# Altium footprint library Supernova Capacitors.PcbLib: 22 footprints (part 2 of 2)
Each footprint in its own frame and in the unit in brackets; x right, y up, seen from the top. Pads: shape width x height; smd on the part's side, far side on the other; paste and mask are expansions set on the pad; w line width, h text height; cw(c..) or ccw(c..) is an arc to the next point about the centre after c.
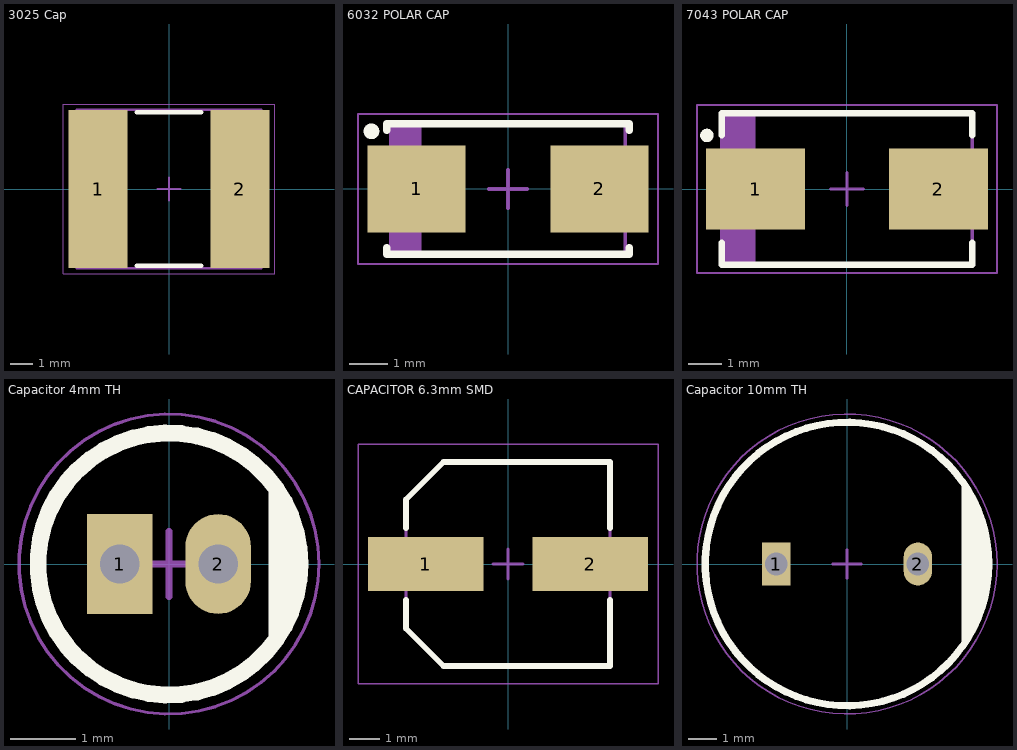
[diagram p1: the footprints below, top view; thin cyan lines are the x and y axes]

## 3025 Cap [mm]
height 8.5
pads (2):
  rect 2.65x7.1 smd paste-2: 1(-3.175,0) 2(3.175,0)
Top Overlay:
  lines w0.2: -1.45,-3.45 1.45,-3.45 ; -1.45,3.45 1.45,3.45
Top Paste:
  region: -2.2,-1.2 -4.2,-1.2 -4.2,-3.2 -2.2,-3.2
  rectangle: -4.2,1.2 -2.2,3.2
  rectangle: -4.2,-1 -2.2,1
  region: 4.2,-1.2 2.2,-1.2 2.2,-3.2 4.2,-3.2
  rectangle: 2.2,1.2 4.2,3.2
  rectangle: 2.2,-1 4.2,1
Top 3D Body:
  lines w0.1: -4.15,-3.55 4.15,-3.55 4.15,3.55 -4.15,3.55 -4.15,-3.55
Top Courtyard (Mech15):
  lines w0.05: -4.75,-3.8 4.75,-3.8 4.75,3.8 -4.75,3.8 -4.75,-3.8
  lines w0.1: -0.5,0 0.5,0 ; 0,-0.5 0,0.5
3D body: height 8.5, standoff 0, extent 2.65,-3.55 4.15,3.55
3D body: height 8.5, standoff 0, extent -4.15,-3.55 -2.65,3.55
3D body: height 8.5, standoff 1, extent -2.65,-3.55 2.65,3.55

## 6032 POLAR CAP [mm] "Molded Capacitor, 2-Leads, Body 6.00x3.20mm, IPC Medium Density"
height 1.5
pads (2):
  rect 2.55x2.25 smd paste-0.2: 1(-2.375,0) 2(2.375,0)
Top Overlay:
  circle w0.203: c-3.55,1.5 r0.102
  lines w0.2: -3.15,-1.525 -3.15,-1.7 3.15,-1.7 3.15,-1.525 ; -3.15,1.525 -3.15,1.7 3.15,1.7 3.15,1.525
Top 3D Body:
  rectangle: -3.05,-1.7 -2.253,1.7
  lines w0.1: -3.05,-1.7 3.05,-1.7 3.05,1.7 -3.05,1.7 -3.05,-1.7
Top Courtyard (Mech15):
  lines w0.05: -3.9,-1.95 3.9,-1.95 3.9,1.95 -3.9,1.95 -3.9,-1.95
  lines w0.1: -0.5,0 0.5,0 ; 0,-0.5 0,0.5
3D body: height 1.7, standoff 0, extent 3.05,-1 3.2,1
3D body: height 1.7, standoff 0, extent -3.2,-1 -3.05,1
3D body: height 2.5, standoff 0, extent -1.3,-1.7 3.05,1.7
3D body: height 2.5, standoff 2.4, extent -2,-1.7 -1.3,1.7
3D body: height 2.5, standoff 0, extent -3.05,-1.7 -2,1.7
3D body: height 2.4, standoff 0, extent -2,-1.7 -1.3,1.7

## 7043 POLAR CAP [mm] "Molded Capacitor, 2-Leads, Body 7.30x4.30mm, IPC Medium Density"
height 3.1
pads (2):
  rect 3x2.45 smd paste-0.2: 1(-2.775,0) 2(2.775,0)
Top Overlay:
  circle w0.203: c-4.25,1.625 r0.102
  lines w0.2: -3.8,-1.625 -3.8,-2.3 3.8,-2.3 3.8,-1.625 ; -3.8,1.625 -3.8,2.3 3.8,2.3 3.8,1.625
Top 3D Body:
  rectangle: -3.8,-2.3 -2.778,2.3
  lines w0.1: -3.8,-2.3 3.8,-2.3 3.8,2.3 -3.8,2.3 -3.8,-2.3
Top Courtyard (Mech15):
  lines w0.05: -4.55,-2.55 4.55,-2.55 4.55,2.55 -4.55,2.55 -4.55,-2.55
  lines w0.1: -0.5,0 0.5,0 ; 0,-0.5 0,0.5
3D body: height 3.8, standoff 0, extent -2.6,-2.2 -1.9,2.2
3D body: height 4, standoff 0, extent -3.7,-2.2 -2.6,2.2
3D body: height 4, standoff 3.8, extent -2.6,-2.2 -1.9,2.2
3D body: height 4, standoff 0, extent -1.9,-2.2 3.7,2.2
3D body: height 2, standoff 0, extent -3.875,-1 -3.7,1
3D body: height 2, standoff 0, extent 3.7,-1 3.875,1

## Capacitor 4mm TH [mm]
pads (2):
  rect 1x1.524 hole 0.6: 1(-0.75,0)
  oval 1x1.524 hole 0.6: 2(0.75,0)
Top Overlay:
  circle w0.254: c0,0 r2
  region: 1.524,-1.219 1.637,-1.106 1.815,-0.84 1.938,-0.544 2,-0.23 2,-0.07 2,0.146 2,0.306 1.938,0.62 1.815,0.916 1.637,1.182 1.524,1.295
Top Courtyard (Mech15):
  circle w0.05: c0,0 r2.29
  lines w0.1: -0.5,0 0.5,0 ; 0,-0.5 0,0.5
3D body: height 0, standoff -3, extent 0.552,-0.199 0.95,0.2
3D body: height 0, standoff -3, extent -0.949,-0.2 -0.551,0.2
3D body: height 12.5, standoff 0, extent -2,-2 2,2

## CAPACITOR 6.3mm SMD [mm] "Aluminum Electrolytic Capacitor, Body 6.60x35.40x8.00mm, IPC Low Density"
height 8
pads (2):
  rect 3.85x1.8 smd paste-0.2: 1(-2.75,0) 2(2.75,0)
Top Overlay:
  lines w0.2: -3.4,-1.2 -3.4,-2.15 -2.15,-3.4 3.4,-3.4 3.4,-1.2 ; -3.4,1.2 -3.4,2.15 -2.15,3.4 3.4,3.4 3.4,1.2
Top 3D Body:
  lines w0.1: -3.4,-2.15 -3.4,2.15 -2.15,3.4 3.4,3.4 3.4,-3.4 -2.15,-3.4 -3.4,-2.15
Top Courtyard (Mech15):
  lines w0.05: -5,-4 5,-4 5,4 -5,4 -5,-4
  lines w0.1: -0.5,0 0.5,0 ; 0,-0.5 0,0.5
3D body: height 8, standoff 0, extent -3.15,-3.15 3.15,3.144
3D body: height 2.67, standoff 0, extent -3.4,-3.4 3.4,3.4
3D body: height 0.3, standoff 0, extent -4.318,-0.635 -3.175,0.635
3D body: height 0.3, standoff 0, extent 3.175,-0.635 4.318,0.635

## Capacitor 10mm TH [mm]
pads (2):
  rect 1x1.524 hole 0.8: 1(-2.5,0)
  oval 1x1.524 hole 0.8: 2(2.5,0)
Top Overlay:
  circle w0.254: c0,0 r5
  region: 4.05,-2.9 4.05,2.925 4.203,2.715 4.464,2.266 4.676,1.791 4.837,1.297 4.946,0.789 5,0.272 5,-0.247 4.946,-0.764 4.837,-1.272 4.676,-1.766 4.464,-2.241 4.203,-2.69
Top Courtyard (Mech15):
  circle w0.05: c0,0 r5.29
  lines w0.1: -0.5,0 0.5,0 ; 0,-0.5 0,0.5
3D body: height 13.5, standoff 0, extent -5,-5 5,5
3D body: height 0, standoff -3, extent -2.797,-0.299 -2.2,0.3
3D body: height 0, standoff -3, extent 2.203,-0.299 2.8,0.3